# EAGLE library part USB_ESD_PROT_USBLC6 (library jonsowman)
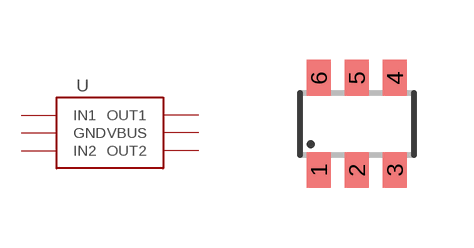
[diagram p7: symbol with the pads of SOT23-6; footprint SOT23-6]

Designator prefix -

## USB_ESD_PROT_USBLC6  [SOT23-6]
1  IN1
2  GND
3  IN2
4  OUT2
5  VBUS
6  OUT1

## Footprint SOT23-6 (pad centres in mm)
Small Outline Transistor 6 lead
smd 0.6 x 0.9: 1 -0.95,-1.15; 2 0,-1.15; 3 0.95,-1.15; 4 0.95,1.15; 5 0,1.15; 6 -0.95,1.15